# Altium schematic symbol library Module-RaspberryPi.SchLib: 8 symbols
Pins are listed as number, name and electrical type; pins without a type are passive.

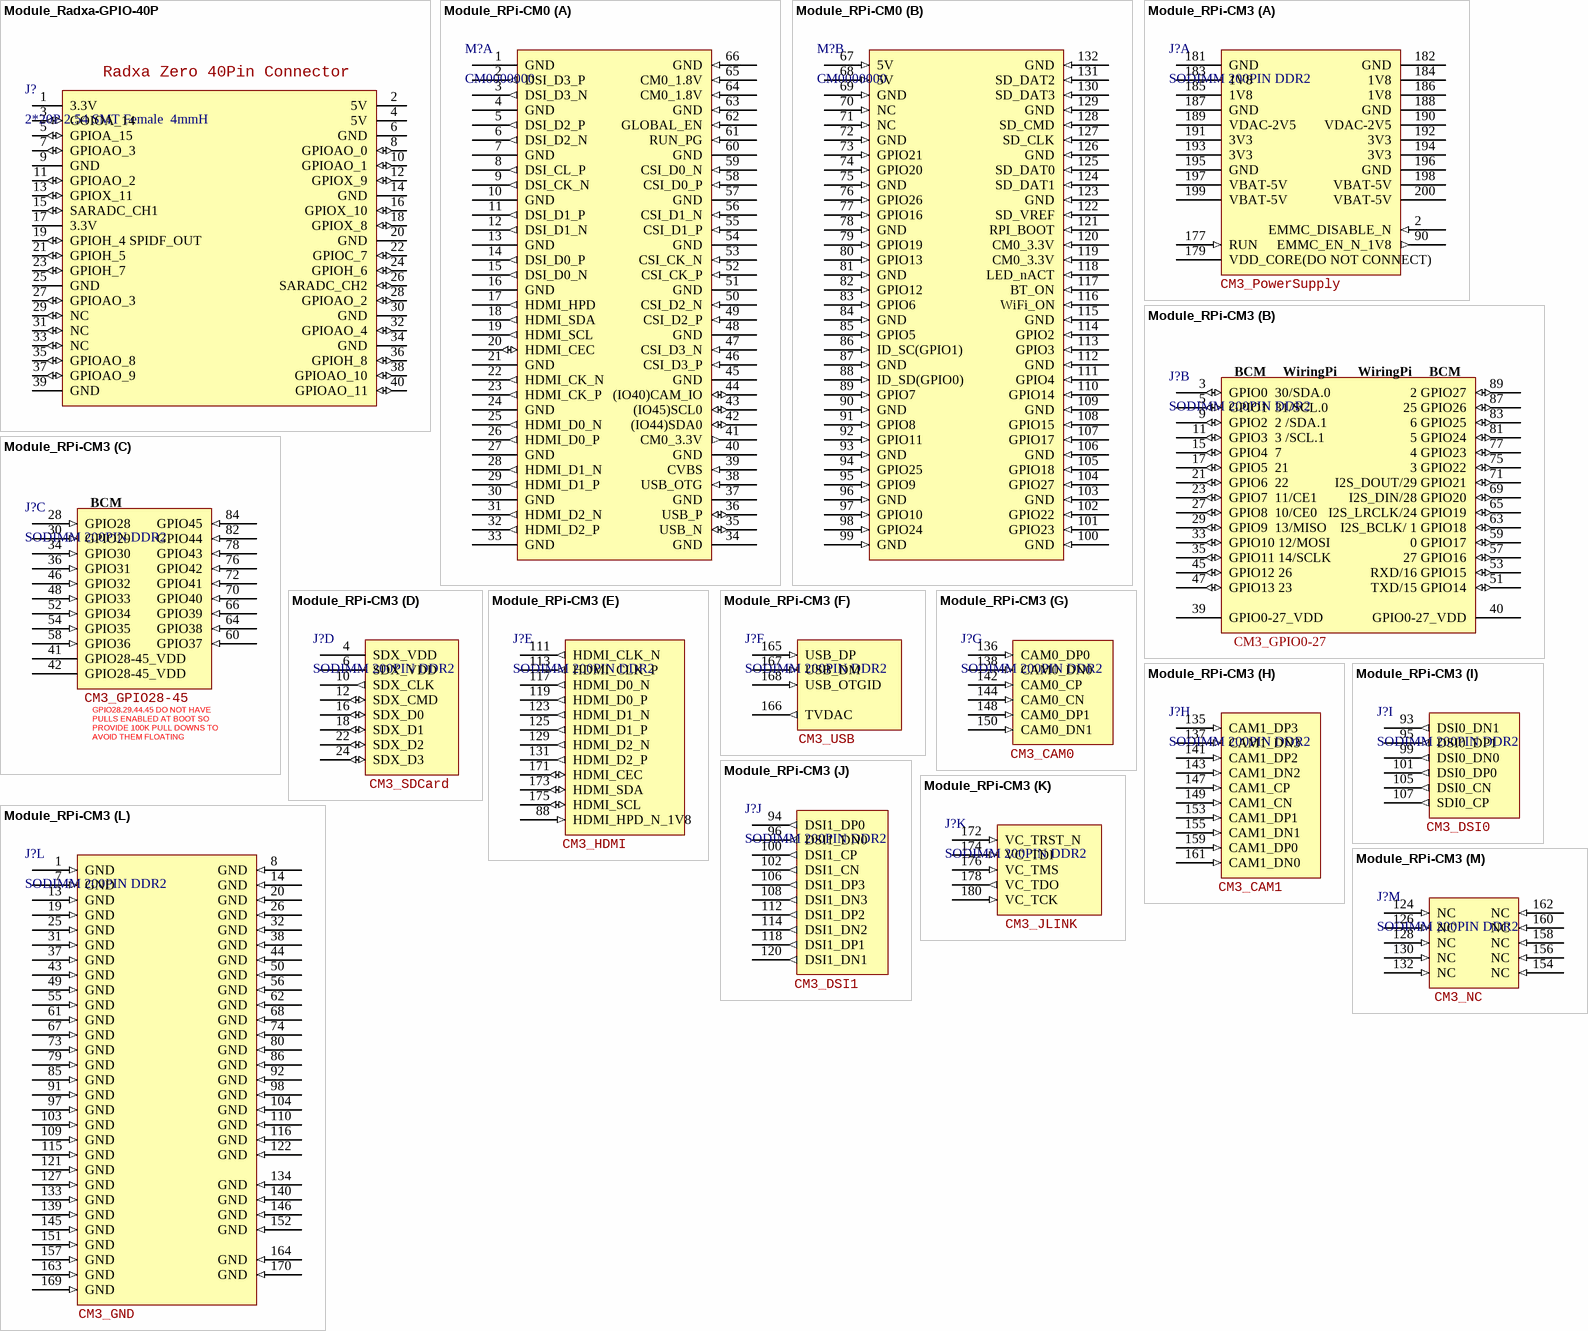
[diagram p0: symbols Module_Radxa-GPIO-40P to Module_RPi-CM3]

## Module_Radxa-GPIO-40P
designator J?, comment 2*20P 2.54 SMT Female  4mmH
树莓派GPIO 40P接口; Manufacturer_Name: *; Manufacturer_Part_Number: *
footprint SMT2X20/2.54X3.5 NonHole
footprint SMT2X20/2.54x3.5-NEGATIVE
footprint SMT2X20/2.54x3.5-POSITIVE
pins: 1 3.3V (power), 2 5V (power), 3 GOIOA_14 (io), 4 5V (power), 5 GPIOA_15 (io), 6 GND (power), 7 GPIOAO_3 (io), 8 GPIOAO_0 (io), 9 GND (power), 10 GPIOAO_1 (io), 11 GPIOAO_2 (io), 12 GPIOX_9 (io), 13 GPIOX_11 (io), 14 GND (power), 15 SARADC_CH1 (io), 16 GPIOX_10 (io), 17 3.3V (power), 18 GPIOX_8 (io), 19 GPIOH_4 SPIDF_OUT (io), 20 GND (power), 21 GPIOH_5 (io), 22 GPIOC_7 (io), 23 GPIOH_7 (io), 24 GPIOH_6 (io), 25 GND (power), 26 SARADC_CH2 (io), 27 GPIOAO_3 (io), 28 GPIOAO_2 (io), 29 NC (io), 30 GND (power), 31 NC (io), 32 GPIOAO_4 (io), 33 NC (io), 34 GND (power), 35 GPIOAO_8 (io), 36 GPIOH_8 (io), 37 GPIOAO_9 (io), 38 GPIOAO_10 (io), 39 GND (power), 40 GPIOAO_11 (io)
text: Radxa Zero 40Pin Connector

## Module_RPi-CM0
designator M?, comment CM0000000
CM0 Lite SOM with 512MB DDR, LCC package; Manufacturer_Name: Raspberry Pi(树莓派); Manufacturer_Part_Number: CM0000000; LCSC: C52108792; Manufacturer_Name_1: *; Manufacturer_Part_Number_1: *
footprint CM0
part A pins: 1 GND, 2 DSI_D3_P (out), 3 DSI_D3_N (out), 4 GND, 5 DSI_D2_P (out), 6 DSI_D2_N (out), 7 GND, 8 DSI_CL_P (out), 9 DSI_CK_N (out), 10 GND, 11 DSI_D1_P (out), 12 DSI_D1_N (out), 13 GND, 14 DSI_D0_P (out), 15 DSI_D0_N (out), 16 GND, 17 HDMI_HPD (out), 18 HDMI_SDA (out), 19 HDMI_SCL (out), 20 HDMI_CEC (io), 21 GND, 22 HDMI_CK_N (out), 23 HDMI_CK_P (out), 24 GND, 25 HDMI_D0_N (out), 26 HDMI_D0_P (out), 27 GND, 28 HDMI_D1_N (out), 29 HDMI_D1_P (out), 30 GND, 31 HDMI_D2_N (out), 32 HDMI_D2_P (out), 33 GND, 34 GND, 35 USB_N (io), 36 USB_P (io), 37 GND, 38 USB_OTG (in), 39 CVBS (in), 40 GND, 41 CM0_3.3V (out), 42 (IO44)SDA0 (io), 43 (IO45)SCL0 (io), 44 (IO40)CAM_IO (io), 45 GND, 46 CSI_D3_P (in), 47 CSI_D3_N (in), 48 GND, 49 CSI_D2_P (in), 50 CSI_D2_N (in), 51 GND, 52 CSI_CK_P (in), 53 CSI_CK_N (in), 54 GND, 55 CSI_D1_P (in), 56 CSI_D1_N (in), 57 GND, 58 CSI_D0_P (in), 59 CSI_D0_N (in), 60 GND, 61 RUN_PG (in), 62 GLOBAL_EN (in), 63 GND (in), 64 CM0_1.8V (in), 65 CM0_1.8V (in), 66 GND (in)
part B pins: 67 5V (in), 68 5V (in), 69 GND (in), 70 NC (in), 71 NC (in), 72 GND (in), 73 GPIO21 (in), 74 GPIO20 (in), 75 GND (in), 76 GPIO26 (in), 77 GPIO16 (in), 78 GND (in), 79 GPIO19 (in), 80 GPIO13 (in), 81 GND (in), 82 GPIO12 (in), 83 GPIO6 (in), 84 GND (in), 85 GPIO5 (in), 86 ID_SC(GPIO1) (in), 87 GND (in), 88 ID_SD(GPIO0) (in), 89 GPIO7 (in), 90 GND (in), 91 GPIO8 (in), 92 GPIO11 (in), 93 GND (in), 94 GPIO25 (in), 95 GPIO9 (in), 96 GND (in), 97 GPIO10 (in), 98 GPIO24 (in), 99 GND (in), 100 GND (in), 101 GPIO23 (in), 102 GPIO22 (in), 103 GND (in), 104 GPIO27 (in), 105 GPIO18 (in), 106 GND (in), 107 GPIO17 (in), 108 GPIO15 (in), 109 GND (in), 110 GPIO14 (in), 111 GPIO4 (in), 112 GND (in), 113 GPIO3 (in), 114 GPIO2 (in), 115 GND (in), 116 WiFi_ON (in), 117 BT_ON (in), 118 LED_nACT (in), 119 CM0_3.3V (in), 120 CM0_3.3V (in), 121 RPI_BOOT (in), 122 SD_VREF (in), 123 GND (in), 124 SD_DAT1 (in), 125 SD_DAT0 (in), 126 GND (in), 127 SD_CLK (in), 128 SD_CMD (in), 129 GND (in), 130 SD_DAT3 (in), 131 SD_DAT2 (in), 132 GND (in)

## Module_RPi-CM3
designator J?, comment SODIMM 200PIN DDR2
树莓派CM3模组 SODIMM座子; Manufacturer_Name: *; 商品编号: *
footprint SODIMM 200PIN - 5.2H (200 位 SODIMM DDR2 SDRAM 表面贴装)
part A pins: 2 EMMC_DISABLE_N (in) "Has internal 10k pull up", 90 EMMC_EN_N_1V8 (out) "Has internal 2k2 pull up", 177 RUN (in) "Has internal 10k pull up", 179 VDD_CORE(DO NOT CONNECT) (power), 181 GND (power), 182 GND (power), 183 1V8 (power), 184 1V8 (power), 185 1V8 (power), 186 1V8 (power), 187 GND (power), 188 GND (power), 189 VDAC-2V5 (power) "TV DAC Supply", 190 VDAC-2V5 (power) "TV DAC Supply", 191 3V3 (power), 192 3V3 (power), 193 3V3 (power), 194 3V3 (power), 195 GND (power), 196 GND (power), 197 VBAT-5V (power) "Core SMPS Supply", 198 VBAT-5V (power) "Core SMPS Supply", 199 VBAT-5V (power) "Core SMPS Supply", 200 VBAT-5V (power) "Core SMPS Supply"
part B pins: 3 GPIO0  30/SDA.0 (io), 5 GPIO1  31/SCL.0 (io), 9 GPIO2  2 /SDA.1 (io), 11 GPIO3  3 /SCL.1 (io), 15 GPIO4  7 (io), 17 GPIO5  21 (io), 21 GPIO6  22 (io), 23 GPIO7  11/CE1 (io), 27 GPIO8  10/CE0 (io), 29 GPIO9  13/MISO (io), 33 GPIO10 12/MOSI (io), 35 GPIO11 14/SCLK (io), 39 GPIO0-27_VDD (power), 40 GPIO0-27_VDD (power), 45 GPIO12 26 (io), 47 GPIO13 23 (io), 51 TXD/15 GPIO14 (io), 53 RXD/16 GPIO15 (io), 57 27 GPIO16 (io), 59  0 GPIO17 (io), 63 I2S_BCLK/ 1 GPIO18 (io), 65 I2S_LRCLK/24 GPIO19 (io), 69 I2S_DIN/28 GPIO20 (io), 71 I2S_DOUT/29 GPIO21 (io), 75  3 GPIO22 (io), 77  4 GPIO23 (io), 81  5 GPIO24 (io), 83  6 GPIO25 (io), 87 25 GPIO26 (io), 89  2 GPIO27 (io)
part C pins: 28 GPIO28 (in), 30 GPIO29 (in), 34 GPIO30 (in), 36 GPIO31 (in), 41 GPIO28-45_VDD (power), 42 GPIO28-45_VDD (power), 46 GPIO32 (in), 48 GPIO33 (in), 52 GPIO34 (in), 54 GPIO35 (in), 58 GPIO36 (in), 60 GPIO37 (in), 64 GPIO38 (in), 66 GPIO39 (in), 70 GPIO40 (in), 72 GPIO41 (in), 76 GPIO42 (in), 78 GPIO43 (in), 82 GPIO44 (in), 84 GPIO45 (in)
part D pins: 4 SDX_VDD (power), 6 SDX_VDD (power), 10 SDX_CLK (out), 12 SDX_CMD (io), 16 SDX_D0 (io), 18 SDX_D1 (io), 22 SDX_D2 (io), 24 SDX_D3 (io)
part E pins: 88 HDMI_HPD_N_1V8 (in) "HDMI hotpulg detect. PDN(Pull High)", 111 HDMI_CLK_N (out), 113 HDMI_CLK_P (out), 117 HDMI_D0_N (out), 119 HDMI_D0_P (out), 123 HDMI_D1_N (out), 125 HDMI_D1_P (out), 129 HDMI_D2_N (out), 131 HDMI_D2_P (out), 171 HDMI_CEC (io) "CEC(has internal 27k pull up  )", 173 HDMI_SDA (io) "DDC Clock (5.5V tolerant)", 175 HDMI_SCL (io) "DDC Data (5.5V tolerant)"
part F pins: 165 USB_DP (in), 166 TVDAC (out), 167 USB_DM (in), 168 USB_OTGID (in) "OTG pin detect PDN(Tie to GND)"
part G pins: 136 CAM0_DP0 (in), 138 CAM0_DN0 (in), 142 CAM0_CP (in), 144 CAM0_CN (in), 148 CAM0_DP1 (in), 150 CAM0_DN1 (in)
part H pins: 135 CAM1_DP3 (in), 137 CAM1_DN3 (in), 141 CAM1_DP2 (in), 143 CAM1_DN2 (in), 147 CAM1_CP (in), 149 CAM1_CN (in), 153 CAM1_DP1 (in), 155 CAM1_DN1 (in), 159 CAM1_DP0 (in), 161 CAM1_DN0 (in)
part I pins: 93 DSI0_DN1 (out), 95 DSI0_DP1 (out), 99 DSI0_DN0 (out), 101 DSI0_DP0 (out), 105 DSI0_CN (out), 107 SDI0_CP (out)
part J pins: 94 DSI1_DP0 (out), 96 DSI1_DN0 (out), 100 DSI1_CP (out), 102 DSI1_CN (out), 106 DSI1_DP3 (out), 108 DSI1_DN3 (out), 112 DSI1_DP2 (out), 114 DSI1_DN2 (out), 118 DSI1_DP1 (out), 120 DSI1_DN1 (out)
part K pins: 172 VC_TRST_N (in), 174 VC_TDI (in), 176 VC_TMS (in), 178 VC_TDO (out), 180 VC_TCK (in)
part L pins: 1 GND (in), 7 GND (in), 8 GND (in), 13 GND (in), 14 GND (in), 19 GND (in), 20 GND (in), 25 GND (in), 26 GND (in), 31 GND (in), 32 GND (in), 37 GND (in), 38 GND (in), 43 GND (in), 44 GND (in), 49 GND (in), 50 GND (in), 55 GND (in), 56 GND (in), 61 GND (in), 62 GND (in), 67 GND (in), 68 GND (in), 73 GND (in), 74 GND (in), 79 GND (in), 80 GND (in), 85 GND (in), 86 GND (in), 91 GND (in), 92 GND (in), 97 GND (in), 98 GND (in), 103 GND (in), 104 GND (in), 109 GND (in), 110 GND (in), 115 GND (in), 116 GND (in), 121 GND (in), 122 GND (in), 127 GND (in), 133 GND (in), 134 GND (in), 139 GND (in), 140 GND (in), 145 GND (in), 146 GND (in), 151 GND (in), 152 GND (in), 157 GND (in), 163 GND (in), 164 GND (in), 169 GND (in), 170 GND (in)
part M pins: 124 NC (in), 126 NC (in), 128 NC (in), 130 NC (in), 132 NC (in), 154 NC (in), 156 NC (in), 158 NC (in), 160 NC (in), 162 NC (in)
part A text: CM3_PowerSupply
part B text: BCM; WiringPi; CM3_GPIO0-27
part C text: BCM; CM3_GPIO28-45; GPIO28.29.44.45 DO NOT HAVE PULLS ENABLED AT BOOT SO PROVIDE 100K PULL DOWNS TO AVOID THEM FLOATING
part D text: CM3_SDCard
part E text: CM3_HDMI
part F text: CM3_USB
part G text: CM3_CAM0
part H text: CM3_CAM1
part I text: CM3_DSI0
part J text: CM3_DSI1
part K text: CM3_JLINK
part L text: CM3_GND
part M text: CM3_NC

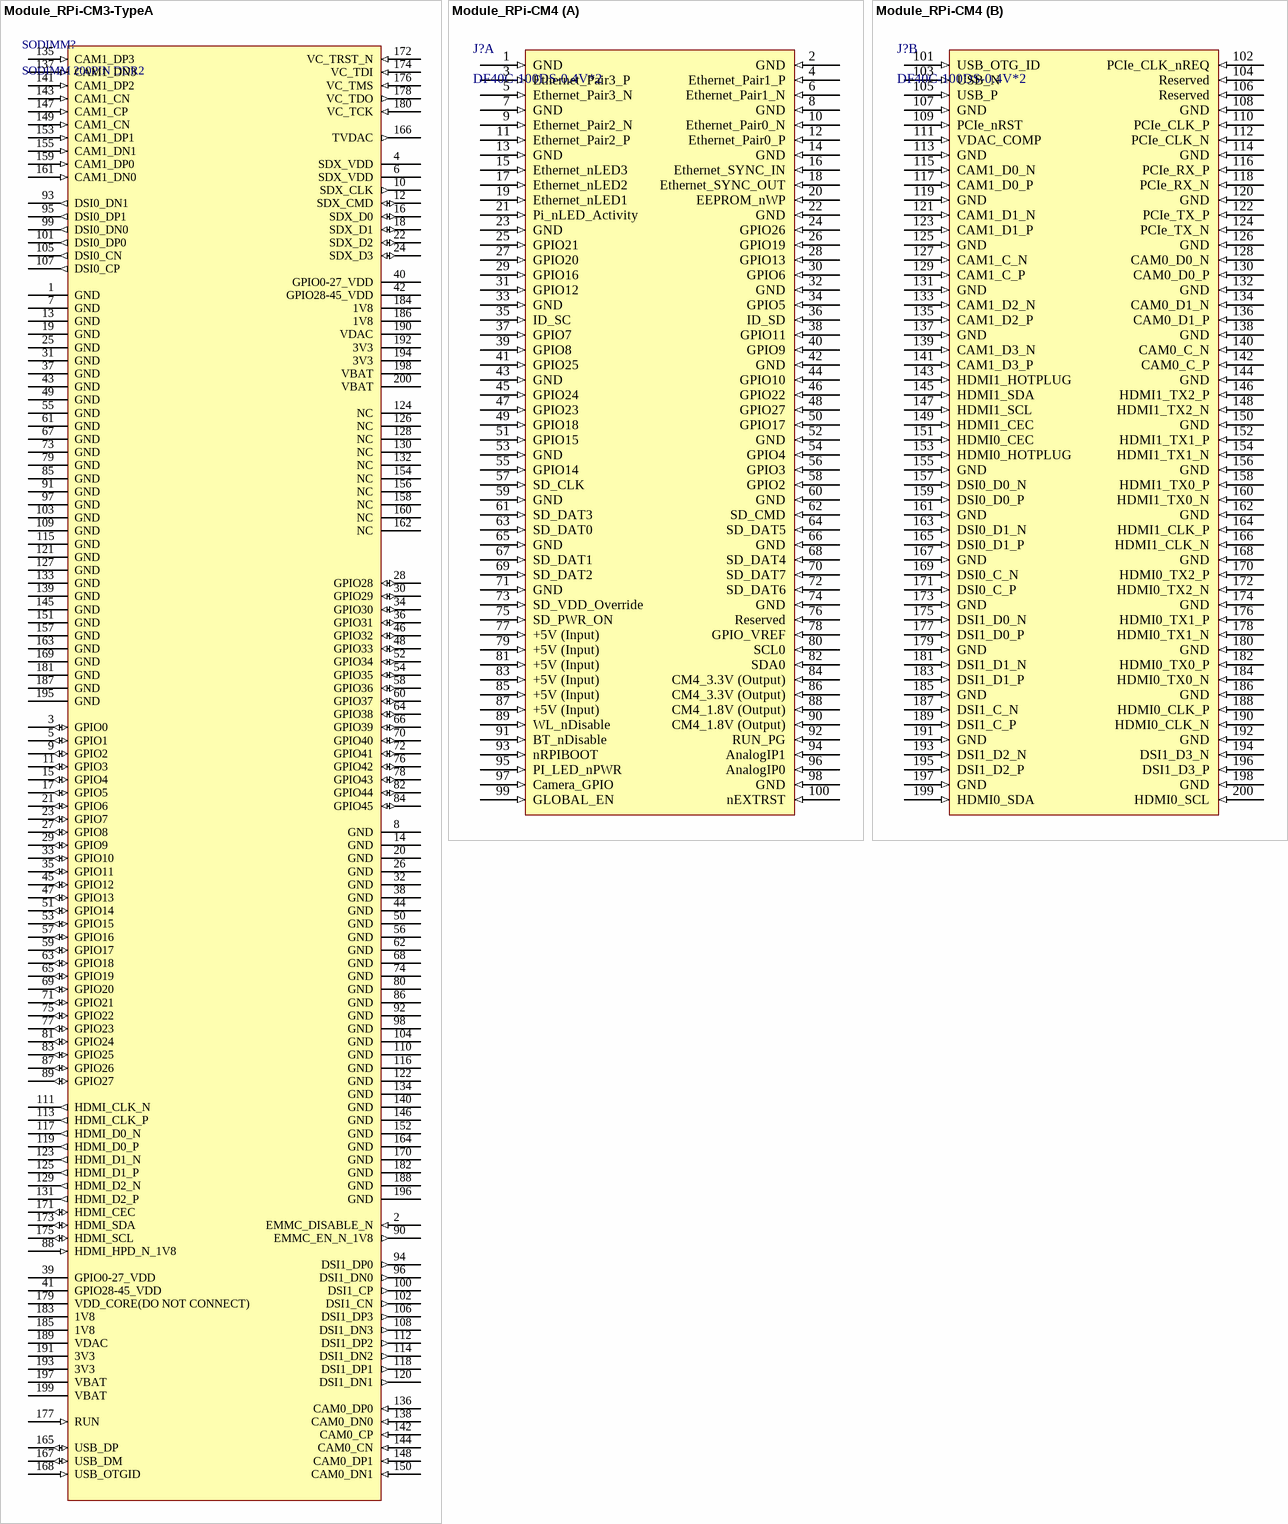
[diagram p1: symbols Module_RPi-CM3-TypeA to Module_RPi-CM4]

## Module_RPi-CM3-TypeA
designator SODIMM?, comment SODIMM 200PIN DDR2
树莓派CM3模组 SODIMM座子; Manufacturer_Name: *; Manufacturer_Part_Number: *
footprint SODIMM 200PIN (200 位 SODIMM DDR2 SDRAM 表面贴装)
pins: 1 GND (power), 2 EMMC_DISABLE_N (in), 3 GPIO0 (io), 4 SDX_VDD (power), 5 GPIO1 (io), 6 SDX_VDD (power), 7 GND (power), 8 GND (power), 9 GPIO2 (io), 10 SDX_CLK (out), 11 GPIO3 (io), 12 SDX_CMD (io), 13 GND (power), 14 GND (power), 15 GPIO4 (io), 16 SDX_D0 (io), 17 GPIO5 (io), 18 SDX_D1 (io), 19 GND (power), 20 GND (power), 21 GPIO6 (io), 22 SDX_D2 (io), 23 GPIO7 (io), 24 SDX_D3 (io), 25 GND (power), 26 GND (power), 27 GPIO8 (io), 28 GPIO28 (io), 29 GPIO9 (io), 30 GPIO29 (io), 31 GND (power), 32 GND (power), 33 GPIO10 (io), 34 GPIO30 (io), 35 GPIO11 (io), 36 GPIO31 (io), 37 GND (power), 38 GND (power), 39 GPIO0-27_VDD (power), 40 GPIO0-27_VDD (power), 41 GPIO28-45_VDD (power), 42 GPIO28-45_VDD (power), 43 GND (power), 44 GND (power), 45 GPIO12 (io), 46 GPIO32 (io), 47 GPIO13 (io), 48 GPIO33 (io), 49 GND (power), 50 GND (power), 51 GPIO14 (io), 52 GPIO34 (io), 53 GPIO15 (io), 54 GPIO35 (io), 55 GND (power), 56 GND (power), 57 GPIO16 (io), 58 GPIO36 (io), 59 GPIO17 (io), 60 GPIO37 (io), 61 GND (power), 62 GND (power), 63 GPIO18 (io), 64 GPIO38 (io), 65 GPIO19 (io), 66 GPIO39 (io), 67 GND (power), 68 GND (power), 69 GPIO20 (io), 70 GPIO40 (io), 71 GPIO21 (io), 72 GPIO41 (io), 73 GND (power), 74 GND (power), 75 GPIO22 (io), 76 GPIO42 (io), 77 GPIO23 (io), 78 GPIO43 (io), 79 GND (power), 80 GND (power), 81 GPIO24 (io), 82 GPIO44 (io), 83 GPIO25 (io), 84 GPIO45 (io), 85 GND (power), 86 GND (power), 87 GPIO26 (io), 88 HDMI_HPD_N_1V8 (in), 89 GPIO27 (io), 90 EMMC_EN_N_1V8 (out), 91 GND (power), 92 GND (power), 93 DSI0_DN1 (out), 94 DSI1_DP0 (out), 95 DSI0_DP1 (out), 96 DSI1_DN0 (out), 97 GND (power), 98 GND (power), 99 DSI0_DN0 (out), 100 DSI1_CP (out), 101 DSI0_DP0 (out), 102 DSI1_CN (out), 103 GND (power), 104 GND (power), 105 DSI0_CN (out), 106 DSI1_DP3 (out), 107 DSI0_CP (out), 108 DSI1_DN3 (out), 109 GND (power), 110 GND (power), 111 HDMI_CLK_N (out), 112 DSI1_DP2 (out), 113 HDMI_CLK_P (out), 114 DSI1_DN2 (out), 115 GND (power), 116 GND (power), 117 HDMI_D0_N (out), 118 DSI1_DP1 (out), 119 HDMI_D0_P (out), 120 DSI1_DN1 (out), 121 GND (power), 122 GND (power), 123 HDMI_D1_N (out), 124 NC, 125 HDMI_D1_P (out), 126 NC, 127 GND (power), 128 NC, 129 HDMI_D2_N (out), 130 NC, 131 HDMI_D2_P (out), 132 NC, 133 GND (power), 134 GND (power), 135 CAM1_DP3 (in), 136 CAM0_DP0 (in), 137 CAM1_DN3 (in), 138 CAM0_DN0 (in), 139 GND (power), 140 GND (power), 141 CAM1_DP2 (in), 142 CAM0_CP (in), 143 CAM1_CN (in), 144 CAM0_CN (in), 145 GND (power), 146 GND (power), 147 CAM1_CP (in), 148 CAM0_DP1 (in), 149 CAM1_CN (in), 150 CAM0_DN1 (in), 151 GND (power), 152 GND (power), 153 CAM1_DP1 (in), 154 NC, 155 CAM1_DN1 (in), 156 NC, 157 GND (power), 158 NC, 159 CAM1_DP0 (in), 160 NC, 161 CAM1_DN0 (in), 162 NC, 163 GND (power), 164 GND (power), 165 USB_DP (io), 166 TVDAC (out), 167 USB_DM (io), 168 USB_OTGID (in), 169 GND (power), 170 GND (power), 171 HDMI_CEC (io), 172 VC_TRST_N (in), 173 HDMI_SDA (io), 174 VC_TDI (in), 175 HDMI_SCL (io), 176 VC_TMS (in), 177 RUN (in), 178 VC_TDO (out), 179 VDD_CORE(DO NOT CONNECT) (power), 180 VC_TCK (in), 181 GND (power), 182 GND (power), 183 1V8 (power), 184 1V8 (power), 185 1V8 (power), 186 1V8 (power), 187 GND (power), 188 GND (power), 189 VDAC (power), 190 VDAC (power), 191 3V3 (power), 192 3V3 (power), 193 3V3 (power), 194 3V3 (power), 195 GND (power), 196 GND (power), 197 VBAT (power), 198 VBAT (power), 199 VBAT (power), 200 VBAT (power)

## Module_RPi-CM4
designator J?, comment DF40C-100DS-0.4V*2
树莓派CM4模组 DF40C-100DS-0.4V座子
part A pins: 1 GND (in) "Ground (0V)", 2 GND (in) "Ground (0V)", 3 Ethernet_Pair3_P (in) "Ethernet Pair 3 Positive ( connect to Transformer or MagJack)", 4 Ethernet_Pair1_P (in) "Ethernet Pair 1 Positive ( connect to Transformer or MagJack)", 5 Ethernet_Pair3_N (in) "Ethernet Pair 3 Negative ( connect to Transformer or MagJack)", 6 Ethernet_Pair1_N (in) "Ethernet Pair 1 Negative ( connect to Transformer or MagJack)", 7 GND (in) "Ground (0V)", 8 GND (in) "Ground (0V)", 9 Ethernet_Pair2_N (in) "Ethernet Pair 2 Negative ( connect to Transformer or MagJack)", 10 Ethernet_Pair0_N (in) "Ethernet Pair 0 Negative ( connect to Transformer or MagJack)", 11 Ethernet_Pair2_P (in) "Ethernet Pair 2 Positive ( connect to Transformer or MagJack)", 12 Ethernet_Pair0_P (in) "Ethernet Pair 0 Positive ( connect to Transformer or MagJack)", 13 GND (in) "Ground (0V)", 14 GND (in) "Ground (0V)", 15 Ethernet_nLED3 (in) "Low Active Ethernet Activity indicator ( 3.3V signal) Typically a Green LED is connected tothis pin: I OL = 8mA @ VOL< 0.4V", 16 Ethernet_SYNC_IN (in) "IEEE1588 SYNC Input pin ( 1.8V signal : IOL = 8mA @ VOL< 0.4V )", 17 Ethernet_nLED2 (in) "Low Active Ethernet speed indicator ( 3.3V signal) Typically a Yellow LED is connected tothis pin. A low State indicates the 1Gbit or 100Mbit Link : IOL = 8mA @ VOL< 0.4V", 18 Ethernet_SYNC_OUT (in) "IEEE1588 SYNC Output pin ( 1.8V signal : IOL = 8mA @ V OL< 0.4V )", 19 Ethernet_nLED1 (in) "Low Active Ethernet speed indicator ( 3.3V signal) Typically a Yellow LED is connected tothis pin. A low State indicates the 1Gbit or 10Mbit Link : IOL = 8mA @ VOL< 0.4V", 20 EEPROM_nWP (in) "Leaving floating NB internally pulled up to CM4_3.3V via 100K ( VIL <0.8V) but can begrounded to prevent writing to the on board EEPROM which stores the bootcode", 21 Pi_nLED_Activity (in) "Low Active Pi Activity LED. 20mA Max 5V tolerant ( VOL<0.4V). ( this is the signal that drivesthe Green LED on the Raspberry Pi 4, Model B )", 22 GND (in) "Ground (0V)", 23 GND (in) "Ground (0V)", 24 GPIO26 (in) "GPIO Typically a 3.3V signal but can be a 1.8V signal by connecting GPIO_Vref to 1.8V", 25 GPIO21 (in) "GPIO Typically a 3.3V signal but can be a 1.8V signal by connecting GPIO_Vref to 1.8V", 26 GPIO19 (in) "GPIO Typically a 3.3V signal but can be a 1.8V signal by connecting GPIO_Vref to 1.8V", 27 GPIO20 (in) "GPIO Typically a 3.3V signal but can be a 1.8V signal by connecting GPIO_Vref to 1.8V", 28 GPIO13 (in) "GPIO Typically a 3.3V signal but can be a 1.8V signal by connecting GPIO_Vref to 1.8V", 29 GPIO16 (in) "GPIO Typically a 3.3V signal but can be a 1.8V signal by connecting GPIO_Vref to 1.8V", 30 GPIO6 (in) "GPIO Typically a 3.3V signal but can be a 1.8V signal by connecting GPIO_Vref to 1.8V", 31 GPIO12 (in) "GPIO Typically a 3.3V signal but can be a 1.8V signal by connecting GPIO_Vref to 1.8V", 32 GND (in) "Ground (0V)", 33 GND (in) "Ground (0V)", 34 GPIO5 (in) "GPIO Typically a 3.3V signal but can be a 1.8V signal by connecting GPIO_Vref to 1.8V", 35 ID_SC (in) "( BCM2711 GPIO 1) GPIO Typically a 3.3V signal but can be a 1.8V signal by connectingGPIO_Vref to 1.8V", 36 ID_SD (in) "( BCM2711 GPIO 0) GPIO Typically a 3.3V signal but can be a 1.8V signal by connectingGPIO_Vref to 1.8V", 37 GPIO7 (in) "GPIO Typically a 3.3V signal but can be a 1.8V signal by connecting GPIO_Vref to 1.8V", 38 GPIO11 (in) "GPIO Typically a 3.3V signal but can be a 1.8V signal by connecting GPIO_Vref to 1.8V", 39 GPIO8 (in) "GPIO Typically a 3.3V signal but can be a 1.8V signal by connecting GPIO_Vref to 1.8V", 40 GPIO9 (in) "GPIO Typically a 3.3V signal but can be a 1.8V signal by connecting GPIO_Vref to 1.8V", 41 GPIO25 (in) "GPIO Typically a 3.3V signal but can be a 1.8V signal by connecting GPIO_Vref to 1.8V", 42 GND (in) "Ground (0V)", 43 GND (in) "Ground (0V)", 44 GPIO10 (in) "GPIO Typically a 3.3V signal but can be a 1.8V signal by connecting GPIO_Vref to 1.8V", 45 GPIO24 (in) "GPIO Typically a 3.3V signal but can be a 1.8V signal by connecting GPIO_Vref to 1.8V", 46 GPIO22 (in) "GPIO Typically a 3.3V signal but can be a 1.8V signal by connecting GPIO_Vref to 1.8V", 47 GPIO23 (in) "GPIO Typically a 3.3V signal but can be a 1.8V signal by connecting GPIO_Vref to 1.8V", 48 GPIO27 (in) "GPIO Typically a 3.3V signal but can be a 1.8V signal by connecting GPIO_Vref to 1.8V", 49 GPIO18 (in) "GPIO Typically a 3.3V signal but can be a 1.8V signal by connecting GPIO_Vref to 1.8V", 50 GPIO17 (in) "GPIO Typically a 3.3V signal but can be a 1.8V signal by connecting GPIO_Vref to 1.8V", 51 GPIO15 (in) "GPIO Typically a 3.3V signal but can be a 1.8V signal by connecting GPIO_Vref to 1.8V", 52 GND (in) "Ground (0V)", 53 GND (in) "Ground (0V)", 54 GPIO4 (in) "GPIO Typically a 3.3V signal but can be a 1.8V signal by connecting GPIO_Vref to 1.8V", 55 GPIO14 (in) "GPIO Typically a 3.3V signal but can be a 1.8V signal by connecting GPIO_Vref to 1.8V", 56 GPIO3 (in) "GPIO Typically a 3.3V signal but can be a 1.8V signal by connecting GPIO_Vref to 1.8V.Internal 1.8K pull up to GPIO_Vref", 57 SD_CLK (in) "SDCARD Clock signal (only available on CM4Lite)", 58 GPIO2 (in) "GPIO Typically a 3.3V signal but can be a 1.8V signal by connecting GPIO_Vref to 1.8V.Internal 1.8K pull up to GPIO_Vref", 59 GND (in) "Ground (0V)", 60 GND (in) "Ground (0V)", 61 SD_DAT3 (in) "SDCARD/eMMC Data3 signal (only available on CM4Lite)", 62 SD_CMD (in) "SDCARD/eMMC Command signal (only available on CM4Lite)", 63 SD_DAT0 (in) "SDCARD/eMMC Data0 signal (only available on CM4Lite)", 64 SD_DAT5 (in) "SDCARD/eMMC Data5 signal (only available on CM4Lite)", 65 GND (in) "Ground (0V)", 66 GND (in) "Ground (0V)", 67 SD_DAT1 (in) "SDCARD/eMMC Data1 signal (only available on CM4Lite)", 68 SD_DAT4 (in) "SDCARD/eMMC Data4 signal (only available on CM4Lite)", 69 SD_DAT2 (in) "SDCARD/eMMC Data2 signal (only available on CM4Lite)", 70 SD_DAT7 (in) "SDCARD/eMMC Data7 signal (only available on CM4Lite)", 71 GND (in) "Ground (0V)", 72 SD_DAT6 (in) "SDCARD/eMMC Data6 signal (only available on CM4Lite)", 73 SD_VDD_Override (in) "Force SDCARD/eMMC interface to 1.8V signalling if set to 3.3V, otherwise leaveunconnected. Typically only used if external eMMC is connected", 74 GND (in) "Ground (0V)", 75 SD_PWR_ON (in) "Output to Power switch for the SDCARD. The CM4 sets this pin High (3.3V) to signal thatPower to the SDCARD should be turned on. If booting from the SDCARD is required then apullup should also be fitted so the power defaults to on. (only available on CM4Lite)", 76 Reserved (in) "Do not Connect anything to this pin.", 77 +5V (Input) (in) "4.75V-5.25V Main power input", 78 GPIO_VREF (in) "Must be connected to CM4_3.3V ( pins 84 and 86 ) for 3.3V GPIO or CM4_1.8V ( pins 88 and90) for 1.8V GPIO. This pin cannot be floating or connected to ground", 79 +5V (Input) (in) "4.75V-5.25V Main power input", 80 SCL0 (in) "IIC Clock pin ( BCM2711 GPIO45) Typically used for Camera and Display Internal 1.8K pullup to CM4_3.3V", 81 +5V (Input) (in) "4.75V-5.25V Main power input", 82 SDA0 (in) "IIC Data pin ( BCM2711 GPIO44 ) Typically used for Camera and Display Internal 1.8K pullup to CM4_3.3V", 83 +5V (Input) (in) "4.75V-5.25V Main power input", 84 CM4_3.3V (Output) (in) "3.3V +/-2.5% Power Output max 300mA per pin for a total of 600mA. This will be powereddown during power off or GLOBAL_EN being set low", 85 +5V (Input) (in) "4.75V-5.25V Main power input", 86 CM4_3.3V (Output) (in) "3.3V +/-2.5% Power Output max 300mA per pin for a total of 600mA. This will be powereddown during power off or GLOBAL_EN being set low", 87 +5V (Input) (in) "4.75V-5.25V Main power input", 88 CM4_1.8V (Output) (in) "1.8V +/-2.5% Power Output max 300mA per pin for a total of 600mA. This will be powereddown during power off or GLOBAL_EN being set low", 89 WL_nDisable (in) "Can be left floating if driven low the wireless interface will be disabled. Internal pulled up via1.8K to CM4_3.3V", 90 CM4_1.8V (Output) (in) "1.8V +/-2.5% Power Output max 300mA per pin for a total of 600mA. This will be powereddown during power off or GLOBAL_EN being set low", 91 BT_nDisable (in) "Can be left floating if driven low the Bluetooth interface will be disabled. Internal pulled upvia 1.8K to CM4_3.3V", 92 RUN_PG (in) "Bidirectional pin. Can be driven low ( via a 220R resistor) to Reset the CM4 CPU. As anOutput a high signals Power Good and CPU running. Internally pulled up to +3.3V via 10K", 93 nRPIBOOT (in) "A low on this pin forces booting from an RPI server ( e.g. PC or a Raspberry Pi)  if not usedleave floating. Internally pulled up via 10K to +3.3V", 94 AnalogIP1 (in) "Analogue input of the MXL7704. Typically connected to CC pin of Type C power connector", 95 PI_LED_nPWR (in) "Low active Output to drive Power On LED. This signal needs to be buffered.", 96 AnalogIP0 (in) "Analogue input of the MXL7704. Typically connected to CC pin of Type C power connector", 97 Camera_GPIO (in) "Typically used to Shutdown the camera to reduce power. Reassigning this pin to anotherfunction isn’t recommended. CM4_3.3V signalling", 98 GND (in) "Ground (0V)", 99 GLOBAL_EN (in) "Input. Drive low to power off CM4. Internally pulled up with a 100K to +5V", 100 nEXTRST (in) "Output Driven low during reset Driven high (CM4_3.3V) once CM4 CPU has started to boot"
part B pins: 101 USB_OTG_ID (in) "Input ( 3.3V signal ) USB OTG Pin. Internal pulled up. When grounded the CM4 becomes aUSB host but the correct OS driver also needs to be used", 102 PCIe_CLK_nREQ (in) "Input ( 3.3V signal) PCIe Clock request pin (low to request PCI clock). Internal pulled up", 103 USB_N (in) "USB D-", 104 Reserved (in) "Do not Connect anything to this pin.", 105 USB_P (in) "USB D+", 106 Reserved (in) "Do not Connect anything to this pin.", 107 GND (in) "Ground (0V)", 108 GND (in) "Ground (0V)", 109 PCIe_nRST (in) "Output (+3.3V signal) PCIe Reset Low active", 110 PCIe_CLK_P (in) "PCIe Clock Out Positive (100MHz) NB AC coupling Capacitor Included on CM4", 111 VDAC_COMP (in) "Video DAC output (TV OUT)", 112 PCIe_CLK_N (in) "PCIe Clock Out Negative (100MHz) NB AC coupling Capacitor Included on CM4", 113 GND (in) "Ground (0V)", 114 GND (in) "Ground (0V)", 115 CAM1_D0_N (in) "Input Camera1 D0 Negative", 116 PCIe_RX_P (in) "Input PCIe GEN 2 RX Positive NB External AC coupling Capacitor required", 117 CAM1_D0_P (in) "Input Camera1 D0 Positive", 118 PCIe_RX_N (in) "Input PCIe GEN 2 RX Negative NB External AC coupling Capacitor required", 119 GND (in) "Ground (0V)", 120 GND (in) "Ground (0V)", 121 CAM1_D1_N (in) "Input Camera1 D1 Negative", 122 PCIe_TX_P (in) "Output PCIe GEN 2 TX Positive NB AC coupling Capacitor Included on CM4", 123 CAM1_D1_P (in) "Input Camera1 D1 Positive", 124 PCIe_TX_N (in) "Output PCIe GEN 2 TX Positive NB AC coupling Capacitor Included on CM4", 125 GND (in) "Ground (0V)", 126 GND (in) "Ground (0V)", 127 CAM1_C_N (in) "Input Camera1 Clock Negative", 128 CAM0_D0_N (in) "Input Camera0 D0 Negative", 129 CAM1_C_P (in) "Input Camera1 Clock Positive", 130 CAM0_D0_P (in) "Input Camera0 D0 Positive", 131 GND (in) "Ground (0V)", 132 GND (in) "Ground (0V)", 133 CAM1_D2_N (in) "Input Camera1 D2 Negative", 134 CAM0_D1_N (in) "Input Camera0 D1 Negative", 135 CAM1_D2_P (in) "Input Camera1 D2 Positive", 136 CAM0_D1_P (in) "Input Camera0 D1 Positive", 137 GND (in) "Ground (0V)", 138 GND (in) "Ground (0V)", 139 CAM1_D3_N (in) "Input Camera1 D3 Negative", 140 CAM0_C_N (in) "Input Camera0 Clock Negative", 141 CAM1_D3_P (in) "Input Camera1 D3 Positive", 142 CAM0_C_P (in) "Input Camera0 Clock Positive", 143 HDMI1_HOTPLUG (in) "Input HDMI1 Hotplug Internally pulled down with a 100K. 5V tolerant. (It can be connecteddirectly to a HDMI connector a small amount of ESD protection is provided on the CM4 byan on board HDMI05-CL02F3)", 144 GND (in) "Ground (0V)", 145 HDMI1_SDA (in) "Bidir HDMI1 SDA Internally pulled up with a 1.8K. 5V tolerant. (It can be connected directlyto a HDMI connector a small amount of ESD protection is provided on the CM4 by an onboard HDMI05-CL02F3)", 146 HDMI1_TX2_P (in) "Output HDMI1 TX2 Positive", 147 HDMI1_SCL (in) "Input HDMI1 SCL Internally pulled up with a 1.8K. 5V tolerant. (It can be connected directlyto a HDMI connector a small amount of ESD protection is provided on the CM4 by an onboard HDMI05-CL02F3)", 148 HDMI1_TX2_N (in) "Output HDMI1 TX2 Negative", 149 HDMI1_CEC (in) "Input HDMI1 CEC Internally pulled up with a 27K. 5V tolerant. (It can be connected directlyto a HDMI connector a small amount of ESD protection is provided on the CM4 by an onboard HDMI05-CL02F3)", 150 GND (in) "Ground (0V)", 151 HDMI0_CEC (in) "Input HDMI0 CEC Internally pulled up with a 27K. 5V tolerant (It can be connected directlyto a HDMI connector a small amount of ESD protection is provided on the CM4 by an onboard HDMI05-CL02F3)", 152 HDMI1_TX1_P (in) "Output HDMI1 TX1 Positive", 153 HDMI0_HOTPLUG (in) "Input HDMI0 Hotplug Internally pulled down 100K. 5V tolerant. (It can be connected directlyto a HDMI connector a small amount of ESD protection is provided on the CM4 by an onboard HDMI05-CL02F3)", 154 HDMI1_TX1_N (in) "Output HDMI1 TX1 Negative", 155 GND (in) "Ground (0V)", 156 GND (in) "Ground (0V)", 157 DSI0_D0_N (in) "Output Display0 D0 Negative", 158 HDMI1_TX0_P (in) "Output HDMI1 TX0 Positive", 159 DSI0_D0_P (in) "Output Display0 D0 Positive", 160 HDMI1_TX0_N (in) "Output HDMI1 TX0 Negative", 161 GND (in) "Ground (0V)", 162 GND (in) "Ground (0V)", 163 DSI0_D1_N (in) "Output Display0 D1 Negative", 164 HDMI1_CLK_P (in) "Output HDMI1 Clock Positive", 165 DSI0_D1_P (in) "Output Display0 D1 Positive", 166 HDMI1_CLK_N (in) "Output HDMI1 Clock Negative", 167 GND (in) "Ground (0V)", 168 GND (in) "Ground (0V)", 169 DSI0_C_N (in) "Output Display0 Clock Negative", 170 HDMI0_TX2_P (in) "Output HDMI0 TX2 Positive", 171 DSI0_C_P (in) "Output Display0 Clock Positive", 172 HDMI0_TX2_N (in) "Output HDMI0 TX2 Negative", 173 GND (in) "Ground (0V)", 174 GND (in) "Ground (0V)", 175 DSI1_D0_N (in) "Output Display1 D0 Negative", 176 HDMI0_TX1_P (in) "Output HDMI0 TX1 Positive", 177 DSI1_D0_P (in) "Output Display1 D0 Positive", 178 HDMI0_TX1_N (in) "Output HDMI0 TX1 Negative", 179 GND (in) "Ground (0V)", 180 GND (in) "Ground (0V)", 181 DSI1_D1_N (in) "Output Display1 D1 Negative", 182 HDMI0_TX0_P (in) "Output HDMI0 TX0 Positive", 183 DSI1_D1_P (in) "Output Display1 D1 Positive", 184 HDMI0_TX0_N (in) "Output HDMI0 TX0 Negative", 185 GND (in) "Ground (0V)", 186 GND (in) "Ground (0V)", 187 DSI1_C_N (in) "Output Display1 Clock Negative", 188 HDMI0_CLK_P (in) "Output HDMI0 Clock Positive", 189 DSI1_C_P (in) "Output Display1 Clock Positive", 190 HDMI0_CLK_N (in) "Output HDMI0 Clock Negative", 191 GND (in) "Ground (0V)", 192 GND (in) "Ground (0V)", 193 DSI1_D2_N (in) "Output Display1 D2 Negative", 194 DSI1_D3_N (in) "Output Display1 D3 Negative", 195 DSI1_D2_P (in) "Output Display1 D2 Positive", 196 DSI1_D3_P (in) "Output Display1 D3 Positive", 197 GND (in) "Ground (0V)", 198 GND (in) "Ground (0V)", 199 HDMI0_SDA (in) "Bidir HDMI0 SDA Internally pulled up with a 1.8K. 5V tolerant. (It can be connected directlyto a HDMI connector a small amount of ESD protection is provided on the CM4 by an onboard HDMI05-CL02F3)", 200 HDMI0_SCL (in) "Bidir HDMI0 SCL Internally pulled up with a 1.8K. 5V tolerant. (It can be connected directlyto a HDMI connector a small amount of ESD protection is provided on the CM4 by an onboard HDMI05-CL02F3)"

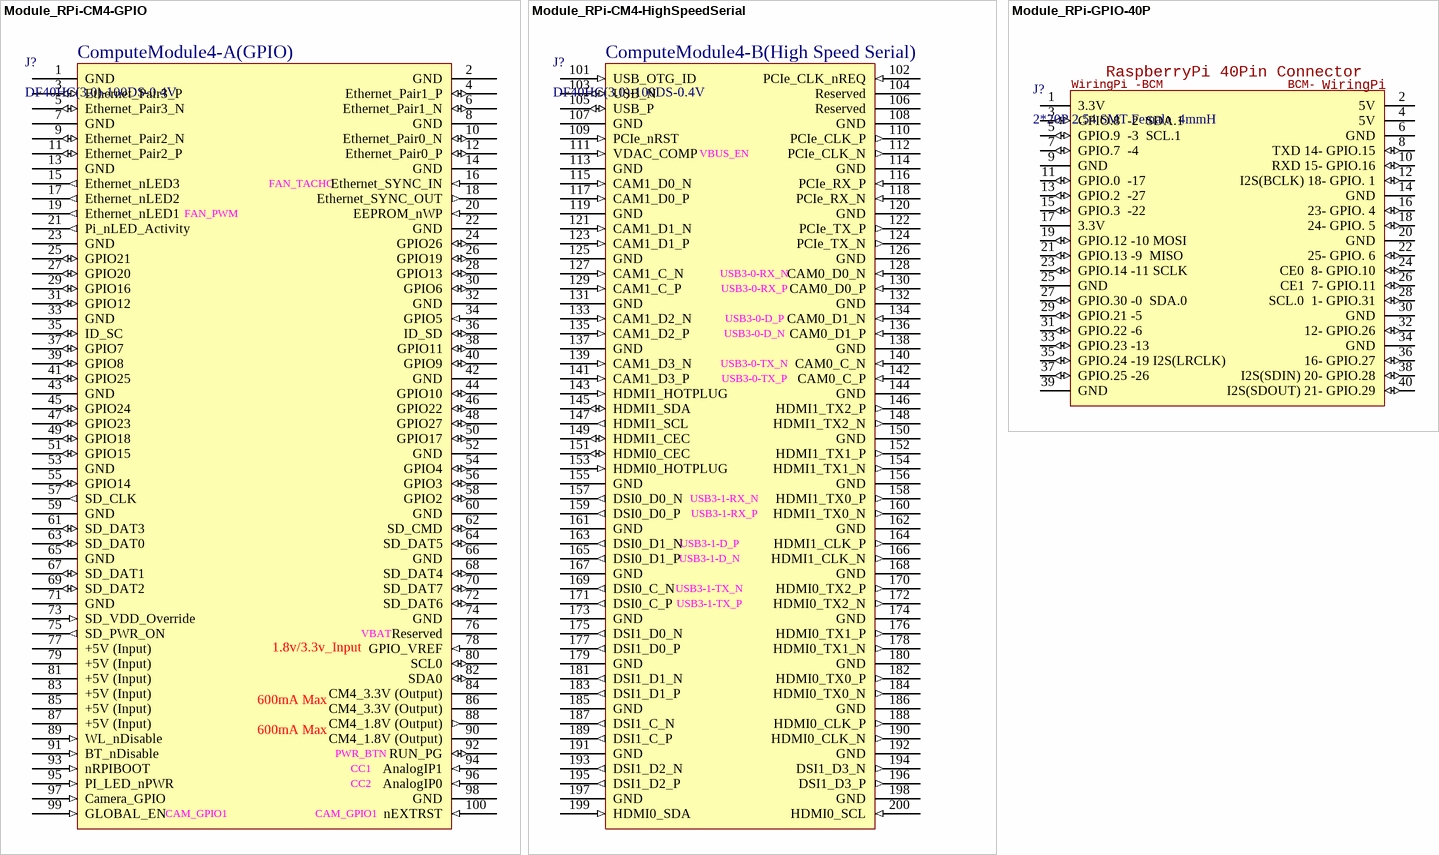
[diagram p2: symbols Module_RPi-CM4-GPIO to Module_RPi-GPIO-40P]

## Module_RPi-CM4-GPIO
designator J?, comment DF40HC(3.0)-100DS-0.4V
树莓派CM4-A GPIO; Manufacturer_Name: HRS(广濑); Manufacturer_Part_Number: DF40HC(3.0)-100DS-0.4V; LCSC: C424649
footprint DF40C100DS04V51(CM4-A) (DF40C100DS04V51)
footprint DF40HC(3.0)-100DS-0.4V(51)(CM4-A) (DF40C100DS04V51)
pins: 1 GND (power) "Ground (0V)", 2 GND (power) "Ground (0V)", 3 Ethernet_Pair3_P (io) "Ethernet Pair 3 Positive ( connect to Transformer or MagJack)", 4 Ethernet_Pair1_P (io) "Ethernet Pair 1 Positive ( connect to Transformer or MagJack)", 5 Ethernet_Pair3_N (io) "Ethernet Pair 3 Negative ( connect to Transformer or MagJack)", 6 Ethernet_Pair1_N (io) "Ethernet Pair 1 Negative ( connect to Transformer or MagJack)", 7 GND (power) "Ground (0V)", 8 GND (power) "Ground (0V)", 9 Ethernet_Pair2_N (io) "Ethernet Pair 2 Negative ( connect to Transformer or MagJack)", 10 Ethernet_Pair0_N (io) "Ethernet Pair 0 Negative ( connect to Transformer or MagJack)", 11 Ethernet_Pair2_P (io) "Ethernet Pair 2 Positive ( connect to Transformer or MagJack)", 12 Ethernet_Pair0_P (io) "Ethernet Pair 0 Positive ( connect to Transformer or MagJack)", 13 GND (power) "Ground (0V)", 14 GND (power) "Ground (0V)", 15 Ethernet_nLED3 (out) "Low Active Ethernet Activity indicator ( 3.3V signal) Typically a Green LED is connected tothis pin: I OL = 8mA @ VOL< 0.4V", 16 Ethernet_SYNC_IN (in) "IEEE1588 SYNC Input pin ( 1.8V signal : IOL = 8mA @ VOL< 0.4V )", 17 Ethernet_nLED2 (out) "Low Active Ethernet speed indicator ( 3.3V signal) Typically a Yellow LED is connected tothis pin. A low State indicates the 1Gbit or 100Mbit Link : IOL = 8mA @ VOL< 0.4V", 18 Ethernet_SYNC_OUT (out) "IEEE1588 SYNC Output pin ( 1.8V signal : IOL = 8mA @ V OL< 0.4V )", 19 Ethernet_nLED1 (out) "Low Active Ethernet speed indicator ( 3.3V signal) Typically a Yellow LED is connected tothis pin. A low State indicates the 1Gbit or 10Mbit Link : IOL = 8mA @ VOL< 0.4V", 20 EEPROM_nWP (in) "Leaving floating NB internally pulled up to CM4_3.3V via 100K ( VIL <0.8V) but can begrounded to prevent writing to the on board EEPROM which stores the bootcode", 21 Pi_nLED_Activity (out) "Low Active Pi Activity LED. 20mA Max 5V tolerant ( VOL<0.4V). ( this is the signal that drivesthe Green LED on the Raspberry Pi 4, Model B )", 22 GND (power) "Ground (0V)", 23 GND (power) "Ground (0V)", 24 GPIO26 (io) "GPIO Typically a 3.3V signal but can be a 1.8V signal by connecting GPIO_Vref to 1.8V", 25 GPIO21 (io) "GPIO Typically a 3.3V signal but can be a 1.8V signal by connecting GPIO_Vref to 1.8V", 26 GPIO19 (io) "GPIO Typically a 3.3V signal but can be a 1.8V signal by connecting GPIO_Vref to 1.8V", 27 GPIO20 (io) "GPIO Typically a 3.3V signal but can be a 1.8V signal by connecting GPIO_Vref to 1.8V", 28 GPIO13 (io) "GPIO Typically a 3.3V signal but can be a 1.8V signal by connecting GPIO_Vref to 1.8V", 29 GPIO16 (io) "GPIO Typically a 3.3V signal but can be a 1.8V signal by connecting GPIO_Vref to 1.8V", 30 GPIO6 (io) "GPIO Typically a 3.3V signal but can be a 1.8V signal by connecting GPIO_Vref to 1.8V", 31 GPIO12 (io) "GPIO Typically a 3.3V signal but can be a 1.8V signal by connecting GPIO_Vref to 1.8V", 32 GND (power) "Ground (0V)", 33 GND (power) "Ground (0V)", 34 GPIO5 (in) "GPIO Typically a 3.3V signal but can be a 1.8V signal by connecting GPIO_Vref to 1.8V", 35 ID_SC (io) "( BCM2711 GPIO 1) GPIO Typically a 3.3V signal but can be a 1.8V signal by connectingGPIO_Vref to 1.8V", 36 ID_SD (io) "( BCM2711 GPIO 0) GPIO Typically a 3.3V signal but can be a 1.8V signal by connectingGPIO_Vref to 1.8V", 37 GPIO7 (io) "GPIO Typically a 3.3V signal but can be a 1.8V signal by connecting GPIO_Vref to 1.8V", 38 GPIO11 (io) "GPIO Typically a 3.3V signal but can be a 1.8V signal by connecting GPIO_Vref to 1.8V", 39 GPIO8 (io) "GPIO Typically a 3.3V signal but can be a 1.8V signal by connecting GPIO_Vref to 1.8V", 40 GPIO9 (io) "GPIO Typically a 3.3V signal but can be a 1.8V signal by connecting GPIO_Vref to 1.8V", 41 GPIO25 (io) "GPIO Typically a 3.3V signal but can be a 1.8V signal by connecting GPIO_Vref to 1.8V", 42 GND (power) "Ground (0V)", 43 GND (power) "Ground (0V)", 44 GPIO10 (io) "GPIO Typically a 3.3V signal but can be a 1.8V signal by connecting GPIO_Vref to 1.8V", 45 GPIO24 (io) "GPIO Typically a 3.3V signal but can be a 1.8V signal by connecting GPIO_Vref to 1.8V", 46 GPIO22 (io) "GPIO Typically a 3.3V signal but can be a 1.8V signal by connecting GPIO_Vref to 1.8V", 47 GPIO23 (io) "GPIO Typically a 3.3V signal but can be a 1.8V signal by connecting GPIO_Vref to 1.8V", 48 GPIO27 (io) "GPIO Typically a 3.3V signal but can be a 1.8V signal by connecting GPIO_Vref to 1.8V", 49 GPIO18 (io) "GPIO Typically a 3.3V signal but can be a 1.8V signal by connecting GPIO_Vref to 1.8V", 50 GPIO17 (io) "GPIO Typically a 3.3V signal but can be a 1.8V signal by connecting GPIO_Vref to 1.8V", 51 GPIO15 (io) "GPIO Typically a 3.3V signal but can be a 1.8V signal by connecting GPIO_Vref to 1.8V", 52 GND (power) "Ground (0V)", 53 GND (power) "Ground (0V)", 54 GPIO4 (io) "GPIO Typically a 3.3V signal but can be a 1.8V signal by connecting GPIO_Vref to 1.8V", 55 GPIO14 (io) "GPIO Typically a 3.3V signal but can be a 1.8V signal by connecting GPIO_Vref to 1.8V", 56 GPIO3 (io) "GPIO Typically a 3.3V signal but can be a 1.8V signal by connecting GPIO_Vref to 1.8V.Internal 1.8K pull up to GPIO_Vref", 57 SD_CLK (out) "SDCARD Clock signal (only available on CM4Lite)", 58 GPIO2 (io) "GPIO Typically a 3.3V signal but can be a 1.8V signal by connecting GPIO_Vref to 1.8V.Internal 1.8K pull up to GPIO_Vref", 59 GND (power) "Ground (0V)", 60 GND (power) "Ground (0V)", 61 SD_DAT3 (io) "SDCARD/eMMC Data3 signal (only available on CM4Lite)", 62 SD_CMD (io) "SDCARD/eMMC Command signal (only available on CM4Lite)", 63 SD_DAT0 (io) "SDCARD/eMMC Data0 signal (only available on CM4Lite)", 64 SD_DAT5 (io) "SDCARD/eMMC Data5 signal (only available on CM4Lite)", 65 GND (power) "Ground (0V)", 66 GND (power) "Ground (0V)", 67 SD_DAT1 (io) "SDCARD/eMMC Data1 signal (only available on CM4Lite)", 68 SD_DAT4 (io) "SDCARD/eMMC Data4 signal (only available on CM4Lite)", 69 SD_DAT2 (io) "SDCARD/eMMC Data2 signal (only available on CM4Lite)", 70 SD_DAT7 (io) "SDCARD/eMMC Data7 signal (only available on CM4Lite)", 71 GND (power) "Ground (0V)", 72 SD_DAT6 (io) "SDCARD/eMMC Data6 signal (only available on CM4Lite)", 73 SD_VDD_Override (in) "Force SDCARD/eMMC interface to 1.8V signalling if set to 3.3V, otherwise leaveunconnected. Typically only used if external eMMC is connected", 74 GND (power) "Ground (0V)", 75 SD_PWR_ON (out) "Output to Power switch for the SDCARD. The CM4 sets this pin High (3.3V) to signal thatPower to the SDCARD should be turned on. If booting from the SDCARD is required then apullup should also be fitted so the power defaults to on. (only available on CM4Lite)", 76 Reserved "Do not Connect anything to this pin.", 77 +5V (Input) (power) "4.75V-5.25V Main power input", 78 GPIO_VREF (in) "Must be connected to CM4_3.3V ( pins 84 and 86 ) for 3.3V GPIO or CM4_1.8V ( pins 88 and90) for 1.8V GPIO. This pin cannot be floating or connected to ground", 79 +5V (Input) (power) "4.75V-5.25V Main power input", 80 SCL0 (io) "IIC Clock pin ( BCM2711 GPIO45) Typically used for Camera and Display Internal 1.8K pullup to CM4_3.3V", 81 +5V (Input) (power) "4.75V-5.25V Main power input", 82 SDA0 (io) "IIC Data pin ( BCM2711 GPIO44 ) Typically used for Camera and Display Internal 1.8K pullup to CM4_3.3V", 83 +5V (Input) (power) "4.75V-5.25V Main power input", 84 CM4_3.3V (Output) (power) "3.3V +/-2.5% Power Output max 300mA per pin for a total of 600mA. This will be powereddown during power off or GLOBAL_EN being set low", 85 +5V (Input) (power) "4.75V-5.25V Main power input", 86 CM4_3.3V (Output) (power) "3.3V +/-2.5% Power Output max 300mA per pin for a total of 600mA. This will be powereddown during power off or GLOBAL_EN being set low", 87 +5V (Input) (power) "4.75V-5.25V Main power input", 88 CM4_1.8V (Output) (out) "1.8V +/-2.5% Power Output max 300mA per pin for a total of 600mA. This will be powereddown during power off or GLOBAL_EN being set low", 89 WL_nDisable (in) "Can be left floating if driven low the wireless interface will be disabled. Internal pulled up via1.8K to CM4_3.3V", 90 CM4_1.8V (Output) (power) "1.8V +/-2.5% Power Output max 300mA per pin for a total of 600mA. This will be powereddown during power off or GLOBAL_EN being set low", 91 BT_nDisable (in) "Can be left floating if driven low the Bluetooth interface will be disabled. Internal pulled upvia 1.8K to CM4_3.3V", 92 RUN_PG (io) "Bidirectional pin. Can be driven low ( via a 220R resistor) to Reset the CM4 CPU. As anOutput a high signals Power Good and CPU running. Internally pulled up to +3.3V via 10K", 93 nRPIBOOT (in) "A low on this pin forces booting from an RPI server ( e.g. PC or a Raspberry Pi)  if not usedleave floating. Internally pulled up via 10K to +3.3V", 94 AnalogIP1 (in) "Analogue input of the MXL7704. Typically connected to CC pin of Type C power connector", 95 PI_LED_nPWR (in) "Low active Output to drive Power On LED. This signal needs to be buffered.", 96 AnalogIP0 (in) "Analogue input of the MXL7704. Typically connected to CC pin of Type C power connector", 97 Camera_GPIO (in) "Typically used to Shutdown the camera to reduce power. Reassigning this pin to anotherfunction isn’t recommended. CM4_3.3V signalling", 98 GND (power) "Ground (0V)", 99 GLOBAL_EN (in) "Input. Drive low to power off CM4. Internally pulled up with a 100K to +5V", 100 nEXTRST (in) "Output Driven low during reset Driven high (CM4_3.3V) once CM4 CPU has started to boot"
text: ComputeModule4-A(GPIO); FAN_TACHO; FAN_PWM; VBAT; 1.8v/3.3v_Input; 600mA Max; PWR_BTN; CC1; CC2; CAM_GPIO1

## Module_RPi-CM4-HighSpeedSerial
designator J?, comment DF40HC(3.0)-100DS-0.4V
树莓派CM4-B High Speed Serial; Manufacturer_Name: HRS(广濑); Manufacturer_Part_Number: DF40HC(3.0)-100DS-0.4V; LCSC: C424649
footprint DF40C100DS04V51(CM4-B) (DF40C100DS04V51)
footprint DF40HC(3.0)-100DS-0.4V(51)(CM4-B) (DF40C100DS04V51)
pins: 101 USB_OTG_ID (in) "Input ( 3.3V signal ) USB OTG Pin. Internal pulled up. When grounded the CM4 becomes aUSB host but the correct OS driver also needs to be used", 102 PCIe_CLK_nREQ (in) "Input ( 3.3V signal) PCIe Clock request pin (low to request PCI clock). Internal pulled up", 103 USB_N (io) "USB D-", 104 Reserved "Do not Connect anything to this pin.", 105 USB_P (io) "USB D+", 106 Reserved "Do not Connect anything to this pin.", 107 GND (power) "Ground (0V)", 108 GND (power) "Ground (0V)", 109 PCIe_nRST (in) "Output (+3.3V signal) PCIe Reset Low active", 110 PCIe_CLK_P (out) "PCIe Clock Out Positive (100MHz) NB AC coupling Capacitor Included on CM4", 111 VDAC_COMP (in) "Video DAC output (TV OUT)", 112 PCIe_CLK_N (out) "PCIe Clock Out Negative (100MHz) NB AC coupling Capacitor Included on CM4", 113 GND (power) "Ground (0V)", 114 GND (power) "Ground (0V)", 115 CAM1_D0_N (in) "Input Camera1 D0 Negative", 116 PCIe_RX_P (in) "Input PCIe GEN 2 RX Positive NB External AC coupling Capacitor required", 117 CAM1_D0_P (in) "Input Camera1 D0 Positive", 118 PCIe_RX_N (in) "Input PCIe GEN 2 RX Negative NB External AC coupling Capacitor required", 119 GND (power) "Ground (0V)", 120 GND (power) "Ground (0V)", 121 CAM1_D1_N (in) "Input Camera1 D1 Negative", 122 PCIe_TX_P (out) "Output PCIe GEN 2 TX Positive NB AC coupling Capacitor Included on CM4", 123 CAM1_D1_P (in) "Input Camera1 D1 Positive", 124 PCIe_TX_N (out) "Output PCIe GEN 2 TX Positive NB AC coupling Capacitor Included on CM4", 125 GND (power) "Ground (0V)", 126 GND (power) "Ground (0V)", 127 CAM1_C_N (in) "Input Camera1 Clock Negative", 128 CAM0_D0_N (in) "Input Camera0 D0 Negative", 129 CAM1_C_P (in) "Input Camera1 Clock Positive", 130 CAM0_D0_P (in) "Input Camera0 D0 Positive", 131 GND (power) "Ground (0V)", 132 GND (power) "Ground (0V)", 133 CAM1_D2_N (in) "Input Camera1 D2 Negative", 134 CAM0_D1_N (in) "Input Camera0 D1 Negative", 135 CAM1_D2_P (in) "Input Camera1 D2 Positive", 136 CAM0_D1_P (in) "Input Camera0 D1 Positive", 137 GND (power) "Ground (0V)", 138 GND (power) "Ground (0V)", 139 CAM1_D3_N (in) "Input Camera1 D3 Negative", 140 CAM0_C_N (in) "Input Camera0 Clock Negative", 141 CAM1_D3_P (in) "Input Camera1 D3 Positive", 142 CAM0_C_P (in) "Input Camera0 Clock Positive", 143 HDMI1_HOTPLUG (in) "Input HDMI1 Hotplug Internally pulled down with a 100K. 5V tolerant. (It can be connecteddirectly to a HDMI connector a small amount of ESD protection is provided on the CM4 byan on board HDMI05-CL02F3)", 144 GND (power) "Ground (0V)", 145 HDMI1_SDA (io) "Bidir HDMI1 SDA Internally pulled up with a 1.8K. 5V tolerant. (It can be connected directlyto a HDMI connector a small amount of ESD protection is provided on the CM4 by an onboard HDMI05-CL02F3)", 146 HDMI1_TX2_P (out) "Output HDMI1 TX2 Positive", 147 HDMI1_SCL (out) "Input HDMI1 SCL Internally pulled up with a 1.8K. 5V tolerant. (It can be connected directlyto a HDMI connector a small amount of ESD protection is provided on the CM4 by an onboard HDMI05-CL02F3)", 148 HDMI1_TX2_N (out) "Output HDMI1 TX2 Negative", 149 HDMI1_CEC (io) "Input HDMI1 CEC Internally pulled up with a 27K. 5V tolerant. (It can be connected directlyto a HDMI connector a small amount of ESD protection is provided on the CM4 by an onboard HDMI05-CL02F3)", 150 GND (power) "Ground (0V)", 151 HDMI0_CEC (io) "Input HDMI0 CEC Internally pulled up with a 27K. 5V tolerant (It can be connected directlyto a HDMI connector a small amount of ESD protection is provided on the CM4 by an onboard HDMI05-CL02F3)", 152 HDMI1_TX1_P (out) "Output HDMI1 TX1 Positive", 153 HDMI0_HOTPLUG (in) "Input HDMI0 Hotplug Internally pulled down 100K. 5V tolerant. (It can be connected directlyto a HDMI connector a small amount of ESD protection is provided on the CM4 by an onboard HDMI05-CL02F3)", 154 HDMI1_TX1_N (out) "Output HDMI1 TX1 Negative", 155 GND (power) "Ground (0V)", 156 GND (power) "Ground (0V)", 157 DSI0_D0_N (out) "Output Display0 D0 Negative", 158 HDMI1_TX0_P (out) "Output HDMI1 TX0 Positive", 159 DSI0_D0_P (out) "Output Display0 D0 Positive", 160 HDMI1_TX0_N (out) "Output HDMI1 TX0 Negative", 161 GND (power) "Ground (0V)", 162 GND (power) "Ground (0V)", 163 DSI0_D1_N (out) "Output Display0 D1 Negative", 164 HDMI1_CLK_P (out) "Output HDMI1 Clock Positive", 165 DSI0_D1_P (out) "Output Display0 D1 Positive", 166 HDMI1_CLK_N (out) "Output HDMI1 Clock Negative", 167 GND (power) "Ground (0V)", 168 GND (power) "Ground (0V)", 169 DSI0_C_N (out) "Output Display0 Clock Negative", 170 HDMI0_TX2_P (out) "Output HDMI0 TX2 Positive", 171 DSI0_C_P (out) "Output Display0 Clock Positive", 172 HDMI0_TX2_N (out) "Output HDMI0 TX2 Negative", 173 GND (power) "Ground (0V)", 174 GND (power) "Ground (0V)", 175 DSI1_D0_N (out) "Output Display1 D0 Negative", 176 HDMI0_TX1_P (out) "Output HDMI0 TX1 Positive", 177 DSI1_D0_P (out) "Output Display1 D0 Positive", 178 HDMI0_TX1_N (out) "Output HDMI0 TX1 Negative", 179 GND (power) "Ground (0V)", 180 GND (power) "Ground (0V)", 181 DSI1_D1_N (out) "Output Display1 D1 Negative", 182 HDMI0_TX0_P (out) "Output HDMI0 TX0 Positive", 183 DSI1_D1_P (out) "Output Display1 D1 Positive", 184 HDMI0_TX0_N (out) "Output HDMI0 TX0 Negative", 185 GND (power) "Ground (0V)", 186 GND (power) "Ground (0V)", 187 DSI1_C_N (out) "Output Display1 Clock Negative", 188 HDMI0_CLK_P (out) "Output HDMI0 Clock Positive", 189 DSI1_C_P (out) "Output Display1 Clock Positive", 190 HDMI0_CLK_N (out) "Output HDMI0 Clock Negative", 191 GND (power) "Ground (0V)", 192 GND (power) "Ground (0V)", 193 DSI1_D2_N (out) "Output Display1 D2 Negative", 194 DSI1_D3_N (out) "Output Display1 D3 Negative", 195 DSI1_D2_P (out) "Output Display1 D2 Positive", 196 DSI1_D3_P (out) "Output Display1 D3 Positive", 197 GND (power) "Ground (0V)", 198 GND (power) "Ground (0V)", 199 HDMI0_SDA (in) "Bidir HDMI0 SDA Internally pulled up with a 1.8K. 5V tolerant. (It can be connected directlyto a HDMI connector a small amount of ESD protection is provided on the CM4 by an onboard HDMI05-CL02F3)", 200 HDMI0_SCL (in) "Bidir HDMI0 SCL Internally pulled up with a 1.8K. 5V tolerant. (It can be connected directlyto a HDMI connector a small amount of ESD protection is provided on the CM4 by an onboard HDMI05-CL02F3)"
text: ComputeModule4-B(High Speed Serial); VBUS_EN; USB3-0-RX_N; USB3-0-RX_P; USB3-0-D_P; USB3-0-D_N; USB3-0-TX_N; USB3-0-TX_P; USB3-1-RX_N; USB3-1-RX_P; USB3-1-D_P; USB3-1-D_N; USB3-1-TX_N; USB3-1-TX_P

## Module_RPi-GPIO-40P
designator J?, comment 2*20P 2.54 SMT Female  4mmH
树莓派GPIO 40P接口; Manufacturer_Name: *; Manufacturer_Part_Number: *
footprint SMT2X20/2.54x3.5-NEGATIVE
footprint SMT2X20/2.54x3.5-POSITIVE
footprint SMT2X20/2.54X3.5 NonHole
pins: 1 3.3V (power), 2 5V (power), 3 GPIO.8  -2  SDA.1 (io), 4 5V (power), 5 GPIO.9  -3  SCL.1 (io), 6 GND (power), 7 GPIO.7  -4 (io), 8 TXD 14- GPIO.15 (io), 9 GND (power), 10 RXD 15- GPIO.16 (io), 11 GPIO.0  -17 (io), 12 I2S(BCLK) 18- GPIO. 1 (io), 13 GPIO.2  -27 (io), 14 GND (power), 15 GPIO.3  -22 (io), 16 23- GPIO. 4 (io), 17 3.3V (power), 18 24- GPIO. 5 (io), 19 GPIO.12 -10 MOSI (io), 20 GND (power), 21 GPIO.13 -9  MISO (io), 22 25- GPIO. 6 (io), 23 GPIO.14 -11 SCLK (io), 24 CE0  8- GPIO.10 (io), 25 GND (power), 26 CE1  7- GPIO.11 (io), 27 GPIO.30 -0  SDA.0 (io), 28 SCL.0  1- GPIO.31 (io), 29 GPIO.21 -5 (io), 30 GND (power), 31 GPIO.22 -6 (io), 32 12- GPIO.26 (io), 33 GPIO.23 -13 (io), 34 GND (power), 35 GPIO.24 -19 I2S(LRCLK) (io), 36 16- GPIO.27 (io), 37 GPIO.25 -26 (io), 38 I2S(SDIN) 20- GPIO.28 (io), 39 GND (power), 40 I2S(SDOUT) 21- GPIO.29 (io)
text: RaspberryPi 40Pin Connector; WiringPi; -BCM; BCM-